# Altium footprint library CRHT_Connectors_PCB.PcbLib: 25 footprints (part 1 of 2)
Each footprint in its own frame and in the unit in brackets; x right, y up, seen from the top. Pads: shape width x height; smd on the part's side, far side on the other; paste and mask are expansions set on the pad; w line width, h text height; cw(c..) or ccw(c..) is an arc to the next point about the centre after c.
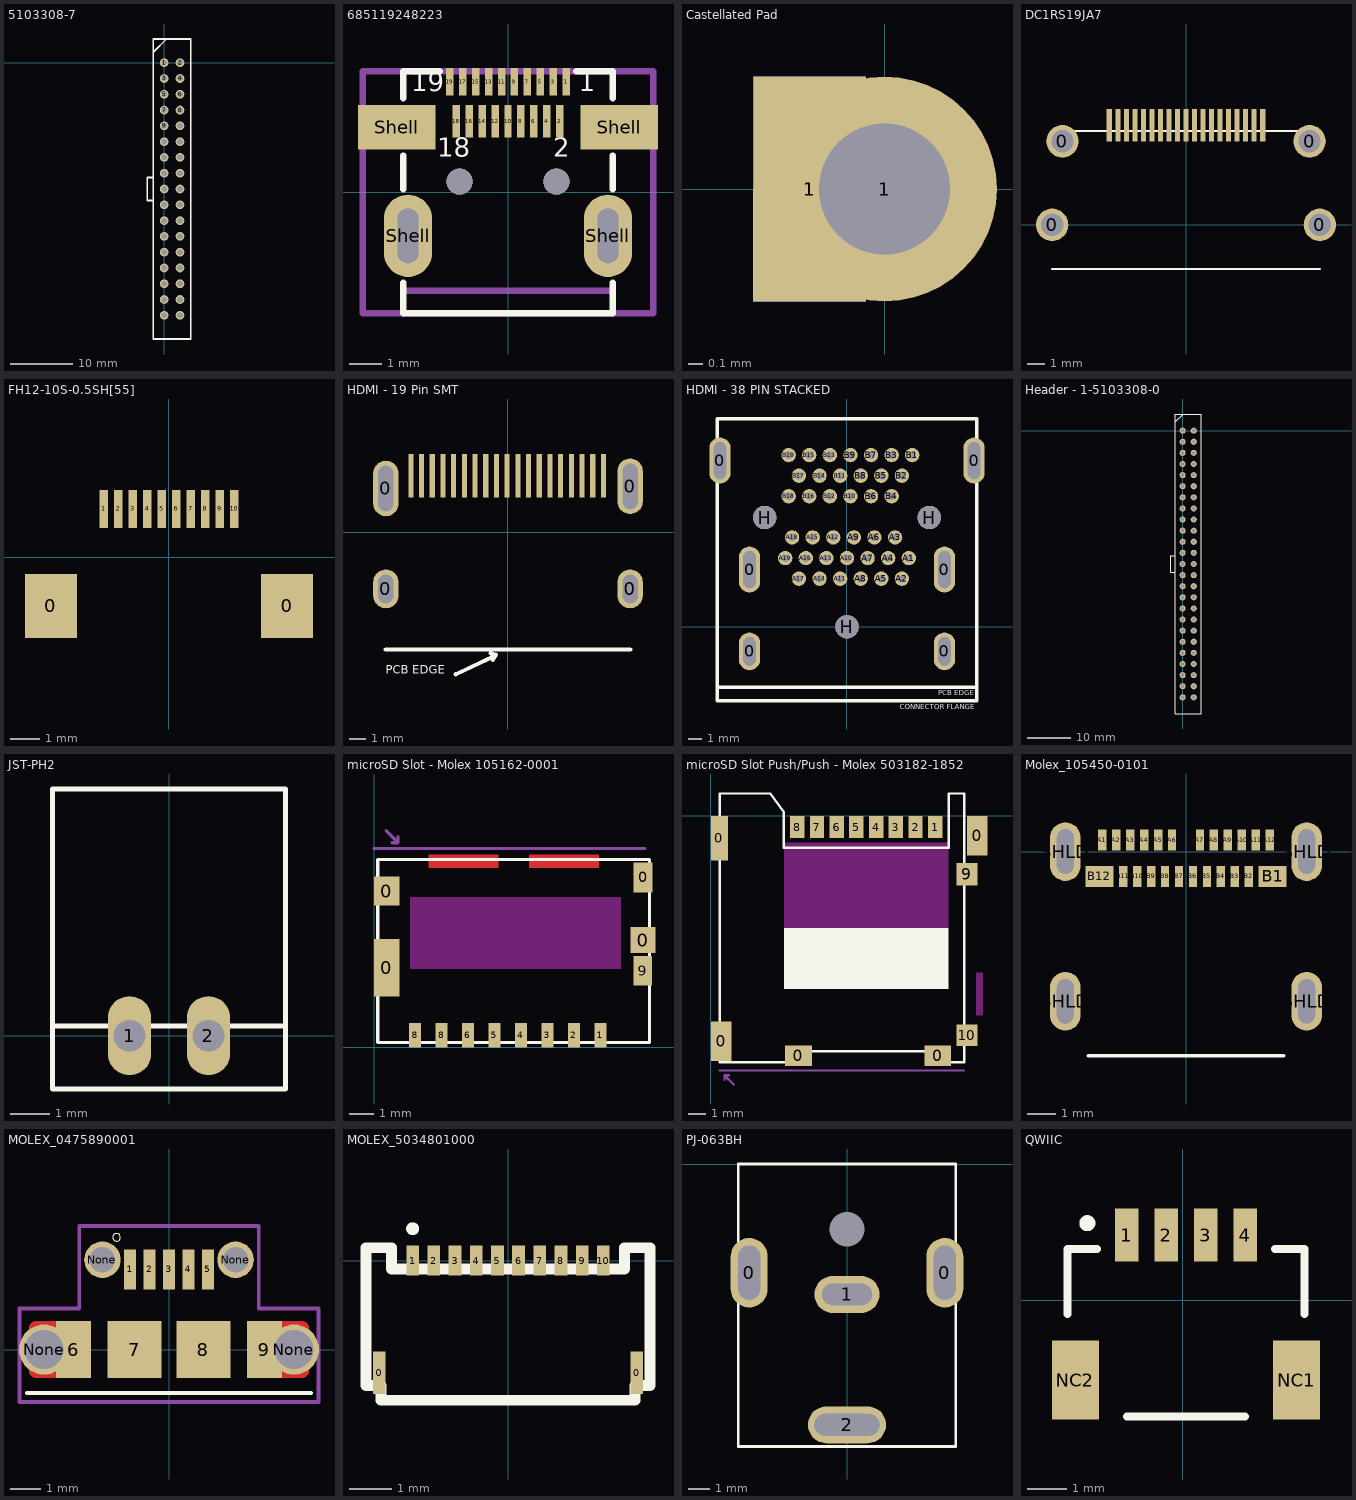
[diagram p0: the footprints below, top view; thin cyan lines are the x and y axes]

## 5103308-7 [mil]
pads (34):
  round 55 hole 35: 1(0,0) 2(100,0) 3(0,-100) 4(100,-100) 5(0,-200) 6(100,-200) 7(0,-300) 8(100,-300) 9(0,-400) 10(100,-400) 11(0,-500) 12(100,-500) 13(0,-600) 14(100,-600) 15(0,-700) 16(100,-700) 17(0,-800) 18(100,-800) 19(0,-900) 20(100,-900) 21(0,-1000) 22(100,-1000) 23(0,-1100) 24(100,-1100) 25(0,-1200) 26(100,-1200) 27(0,-1300) 28(100,-1300) 29(0,-1400) 30(100,-1400) 31(0,-1500) 32(100,-1500) 33(0,-1600) 34(100,-1600)
Top Overlay:
  lines w10: -68.11,-872.83 -107.48,-872.83 -107.48,-727.17 -68.11,-727.17 ; -66.56,68.44 15,150 ; -68.11,-1750 168.11,-1750 168.11,150 -68.11,150 -68.11,-1750
3D body "5103308-7.STEP": height 388, standoff -120, extent -130,-1800 230,200

## 685119248223 [mm] "Micro HDMI Horizontal SMT Hybrid Mount"
height 3
pads (25):
  rect 0.23x0.85 smd: 1(1.8,3.425) 3(1.4,3.425) 5(1,3.425) 7(0.6,3.425) 9(0.2,3.425) 11(-0.2,3.425) 13(-0.6,3.425) 15(-1,3.425) 17(-1.4,3.425) 19(-1.8,3.425)
  rect 0.23x1 smd: 2(1.6,2.2) 4(1.2,2.2) 6(0.8,2.2) 8(0.4,2.2) 10(0,2.2) 12(-0.4,2.2) 14(-0.8,2.2) 16(-1.2,2.2) 18(-1.6,2.2)
  rect 2.4x1.38 smd: Shell(-3.45,2.02) Shell(3.45,2.02)
  oval 1.5x2.55 hole 0.65 slot 1.7 at 90 deg: Shell(-3.1,-1.35) Shell(3.1,-1.35)
  round 0.81 hole 0.81 unplated: ""(-1.5,0.33) ""(1.5,0.33)
Top Overlay:
  lines w0.2: -3.25,-2.81 -3.25,-3.75 3.25,-3.75 3.25,-2.81 ; -3.25,0.1 -3.25,1.14 ; -3.25,2.91 -3.25,3.75 -2.12,3.75 ; 2.12,3.75 3.25,3.75 3.25,2.91 ; 3.25,0.1 3.25,1.14
  text "1" at 2.2,2.938 h1.02
  text "19" at -3,2.938 h1.02
  text "18" at -2.2,0.9 h1.02
  text "2" at 1.4,0.9 h1.02
Mechanical 13:
  lines w0.2: -4.509,-3.75 -4.509,3.75 4.509,3.75 4.509,-3.75 -4.509,-3.75
Mechanical 15:
  lines w0.2: -3.25,-3.05 3.25,-3.05
  text "PCB Edge" at -1.794,-2.746 h0.89
3D body "685119248223.stp": height 2.99, standoff -1.11, extent -4.509,-3.75 4.509,3.755

## Castellated Pad [mil]
pads (3):
  rect 30x60 smd: 1(-20,0)
  rect 30x60 smd far side: 1(-20,0)
  round 60 hole 35: 1(0,0)

## DC1RS19JA7 [mm] "HDMI Right Angle Connector"
height 6.1
pads (23):
  round 1.9 hole 1.3 mask+0.05: 0(-7.85,0) 0(-7.25,4.9) 0(7.25,4.9) 0(7.85,0)
  rect 0.3x1.9 smd mask+0.05: 1(4.5,5.85) 2(4,5.85) 3(3.5,5.85) 4(3,5.85) 5(2.5,5.85) 6(2,5.85) 7(1.5,5.85) 8(1,5.85) 9(0.5,5.85) 10(0,5.85) 11(-0.5,5.85) 12(-1,5.85) 13(-1.5,5.85) 14(-2,5.85) 15(-2.5,5.85) 16(-3,5.85) 17(-3.5,5.85) 18(-4,5.85) 19(-4.5,5.85)
Top Overlay:
  lines w0.127: -7.85,-2.6 7.85,-2.6 ; -7.85,5.5 7.85,5.5
3D body: height 7.1, standoff 0, extent -7.85,-2.5 7.85,5.5

## FH12-10S-0.5SH[55] [mm] "10-Pin Connector LCD"
pads (12):
  rect 1.8x2.2 smd: 0(-4.08,-1.675) 0(4.08,-1.675)
  rect 0.3x1.3 smd mask+0.05: 1(-2.25,1.675) 2(-1.75,1.675) 3(-1.25,1.675) 4(-0.75,1.675) 5(-0.25,1.675) 6(0.25,1.675) 7(0.75,1.675) 8(1.25,1.675) 9(1.75,1.675) 10(2.25,1.675)
3D body "FH12-10S-0.5SH.STEP": height 2.05, standoff -0.05, extent -4.55,-4.725 4.55,1.675

## HDMI - 19 Pin SMT [mm] "0.50mm Pitch HDMI* Receptacle, Right Angle, 0.76µm Gold (Au) Plating, Front Solder Tab Length 1.80mm, Shell 74151 Series"
height 6.18
pads (23):
  oval 1.5x2.3 hole 0.9 slot 1.7 at 90 deg: 0(-7.25,-3.36) 0(7.25,-3.36)
  oval 1.5x3.3 hole 0.9 slot 2.7 at 90 deg: 0(-7.25,2.6) 0(7.25,2.727)
  rect 0.3x2.6 smd: 1(5.665,3.36) 2(5.03,3.36) 3(4.395,3.36) 4(3.76,3.36) 5(3.125,3.36) 6(2.49,3.36) 7(1.855,3.36) 8(1.22,3.36) 9(0.585,3.36) 10(-0.05,3.36) 11(-0.685,3.36) 12(-1.32,3.36) 13(-1.955,3.36) 14(-2.59,3.36) 15(-3.225,3.36) 16(-3.86,3.36) 17(-4.495,3.36) 18(-5.13,3.36) 19(-5.765,3.36)
Top Overlay:
  lines w0.254: -7.25,-6.95 7.25,-6.95 ; -3.096,-8.421 -0.749,-7.306 -0.9,-7.56 -0.729,-7.272 -1.027,-7.179
  text "PCB EDGE" at -7.239,-8.382 h0.51

## HDMI - 38 PIN STACKED [mm] "1888811-1"
height 17.83
pads (47):
  oval 1.55x3.35 hole 0.9 slot 2.7 at 90 deg: 0(-9.25,12.1) 0(-7.1,4.16) 0(7.1,4.16) 0(9.25,12.1)
  oval 1.55x2.75 hole 0.9 slot 2.1 at 90 deg: 0(-7.1,-1.8) 0(7.1,-1.8)
  round 1.05 hole 0.55: A1(4.5,5) A2(4,3.5) A3(3.5,6.5) A4(3,5) A5(2.5,3.5) A6(2,6.5) A7(1.5,5) A8(1,3.5) A9(0.5,6.5) A10(0,5) A11(-0.5,3.5) A12(-1,6.5) A13(-1.5,5) A14(-2,3.5) A15(-2.5,6.5) A16(-3,5) A17(-3.5,3.5) A18(-4,6.5) A19(-4.5,5) B1(4.75,12.5) B2(4,11) B3(3.25,12.5) B4(3.25,9.5) B5(2.5,11) B6(1.75,9.5) B7(1.75,12.5) B8(1,11) B9(0.25,12.5) B10(0.25,9.5) B11(-0.5,11) B12(-1.25,9.5) B13(-1.25,12.5) B14(-2,11) B15(-2.75,12.5) B16(-2.75,9.5) B17(-3.5,11) B18(-4.25,9.5) B19(-4.25,12.5)
  round 1.7 hole 1.7 unplated: H(-6,7.95) H(0,0) H(6,7.95)
Top Overlay:
  lines w0.254: -9.367,-4.4 9.429,-4.4 ; 9.429,-5.4 -9.45,-5.4 -9.45,15.15 9.45,15.15 9.45,-5.4
  text "CONNECTOR FLANGE" at 3.841,-6.02 h0.38
  text "PCB EDGE" at 6.635,-5.004 h0.38
3D body "HDMI - 38 PIN STACKED.STEP": height 28, standoff -3.34, extent -9.398,-5.437 9.502,15.113

## Header - 1-5103308-0 [mil] "Headers & Wire Housings 50P HEADER SP 15DP - TE Connectivity"
height 388
pads (50):
  round 55 hole 35: 1(0,0) 2(100,0) 3(0,-100) 4(100,-100) 5(0,-200) 6(100,-200) 7(0,-300) 8(100,-300) 9(0,-400) 10(100,-400) 11(0,-500) 12(100,-500) 13(0,-600) 14(100,-600) 15(0,-700) 16(100,-700) 17(0,-800) 18(100,-800) 19(0,-900) 20(100,-900) 21(0,-1000) 22(100,-1000) 23(0,-1100) 24(100,-1100) 25(0,-1200) 26(100,-1200) 27(0,-1300) 28(100,-1300) 29(0,-1400) 30(100,-1400) 31(0,-1500) 32(100,-1500) 33(0,-1600) 34(100,-1600) 35(0,-1700) 36(100,-1700) 37(0,-1800) 38(100,-1800) 39(0,-1900) 40(100,-1900) 41(0,-2000) 42(100,-2000) 43(0,-2100) 44(100,-2100) 45(0,-2200) 46(100,-2200) 47(0,-2300) 48(100,-2300) 49(0,-2400) 50(100,-2400)
Top Overlay:
  lines w10: -68.11,-1272.83 -107.48,-1272.83 -107.48,-1127.17 -68.11,-1127.17 ; -66.56,78.44 5,150 ; -68.11,-2550 -68.11,150 168.11,150 168.11,-2550 -68.11,-2550
3D body "1-5103308-0.STEP": height 388, standoff -120, extent -130,-2600 230,200

## JST-PH2 [mm]
height 4.8
pads (2):
  oval 1.1x2 hole 0.8: 1(-1,0) 2(1,0)
Top Overlay:
  lines w0.127: -2.95,0.25 2.95,0.25 ; -2.95,-1.35 2.95,-1.35 2.95,6.25 -2.95,6.25 -2.95,-1.35

## microSD Slot - Molex 105162-0001 [mm] "1.10mm Pitch microSD Card Header with Detect Pin, Height 1.45mm, Lead-Free, Gold (Au) Plated 0.381µm"
height 1.45
pads (13):
  rect 1.05x2.39 smd: 0(0.525,3.305)
  rect 1.05x1.2 smd: 0(0.525,6.49)
  rect 1.05x1.08 smd: 0(11.175,4.45)
  rect 0.8x1.24 smd: 0(11.175,7.06)
  rect 0.5x1 smd: 1(9.4,0.5) 2(8.3,0.5) 3(7.2,0.5) 4(6.1,0.5) 5(5,0.5) 6(3.9,0.5) 8(1.7,0.5) 8(2.8,0.5)
  rect 0.78x1.24 smd: 9(11.16,3.18)
Top Layer:
  rectangle: 2.25,7.46 5.16,8.01
  rectangle: 6.44,7.46 9.35,8.01
Top Layer keep-out:
  rectangle: 1.5,3.25 10.25,6.25
Top Overlay:
  lines w0.127: 0.15,0.205 0.15,7.805 11.45,7.805 11.45,0.205 0.15,0.205
Mechanical 3:
  lines w0.127: 0,8.264 11.25,8.264 ; 0.75,8.5 1,8.5 ; 0.5,9 0.5,9 ; 0.5,9 0.75,8.75 1,8.5 ; 1,8.5 1,8.75 1,8.5
  text "PCB EDGE" at 0.5,9.25 h0.76
3D body "105162-0001.STEP": height 1.45, standoff 0, extent 0.225,0.2 11.525,7.8

## microSD Slot Push/Push - Molex 503182-1852 [mm] "1.10mm Pitch microSD Memory Card Connector, Normal Mount Surface Mount, Push-Push Type, 1.45mm Height, Anti-card fly-out"
height 1.45
pads (15):
  rect 0.95x2.5 smd: 0(0.475,-1.25)
  rect 1.15x2.2 smd: 0(0.575,-12.58) 0(14.865,-1.1)
  rect 1.5x1.15 smd: 0(4.88,-13.375) 0(12.66,-13.375)
  rect 0.8x1.24 smd: 1(12.52,-0.62) 2(11.42,-0.62) 3(10.32,-0.62) 4(9.22,-0.62) 5(8.12,-0.62) 6(7.02,-0.62) 7(5.92,-0.62) 8(4.82,-0.62)
  rect 1.16x1.25 smd: 9(14.29,-3.25)
  rect 1.16x1.2 smd: 10(14.29,-12.25)
Top Layer keep-out:
  rectangle: 4.07,-6.245 13.27,-1.495
Top Overlay:
  rectangle: 4.07,-9.65 13.27,-6.25
  lines w0.127: 0.5,-13.75 0.5,1.25 3.324,1.25 4.07,0.192 4.07,-1.775 13.27,-1.775 13.27,1.25 14.14,1.25 14.14,-13.75 12.75,-13.75 12.75,-13.13 5.25,-13.13 5.25,-13.75 0.5,-13.75
Keep-Out Layer:
  rectangle: 14.79,-11.15 15.19,-8.75
Mechanical 3:
  lines w0.127: 0.5,-14.204 14.125,-14.204 ; 1.27,-14.986 0.762,-14.478 ; 0.762,-14.478 1.016,-14.478 0.762,-14.478 ; 0.762,-14.478 0.762,-14.732 0.762,-14.478
  text "PCB EDGE" at 1.524,-15.494 h0.76
3D body "503182-1852.STEP": height 1.51, standoff 0.01, extent 0.255,-13.725 15.195,1.225

## Molex_105450-0101 [mm] "Molex_105450-0101 USB Type C Right Angle"
height 3.24
pads (28):
  rect 0.3x0.76 smd mask+0.05: A1(-3,0.41) A2(-2.5,0.41) A3(-2,0.41) A4(-1.5,0.41) A5(-1,0.41) A6(-0.5,0.41) A7(0.5,0.41) A8(1,0.41) A9(1.5,0.41) A10(2,0.41) A11(2.5,0.41) A12(3,0.41) B2(2.25,-0.89) B3(1.75,-0.89) B4(1.25,-0.89) B5(0.75,-0.89) B6(0.25,-0.89) B7(-0.25,-0.89) B8(-0.75,-0.89) B9(-1.25,-0.89) B10(-1.75,-0.89) B11(-2.25,-0.89)
  rect 1x0.76 smd mask+0.05: B1(3.1,-0.89) B12(-3.1,-0.89)
  oval 1.1x2.1 hole 1.6 slot 0.6 at 0 deg mask+0.05: SHLD(-4.32,-5.36) SHLD(-4.32,0) SHLD(4.32,-5.36) SHLD(4.32,0)
Top Overlay:
  lines w0.127: -3.5,-7.31 3.5,-7.31
3D body "1054500101.stp": height 3.18, standoff -0.78, extent -4.47,-7.3 4.47,0.6

## MOLEX_0475890001 [mm] "Molex USB uB Connector"
pads (13):
  rect 0.4x1.35 smd: 1(-1.3,2.675) 2(-0.65,2.675) 3(0,2.675) 4(0.65,2.675) 5(1.3,2.675)
  rect 1.175x1.9 smd: 6(-3.187,0) 9(3.187,0)
  rect 1.8x1.9 smd: 7(-1.15,0) 8(1.15,0)
  round 1.676 hole 1.3: None(-4.175,0) None(4.175,0)
  round 1.219 hole 0.85: None(-2.225,3) None(2.225,3)
Top Layer:
  region: 193 vertices and 0 holes, not listed, extent -4.675,-0.95 -3.875,0.95
  region: -3.875,0.95 -3.775,0.95 -3.775,-0.95 -3.875,-0.95
  region: 193 vertices and 0 holes, not listed, extent 3.875,-0.95 4.675,0.95
  region: 3.875,0.95 3.775,0.95 3.775,-0.95 3.875,-0.95
  region: 2.225,2.475 2.236,2.475 2.258,2.476 2.28,2.478 2.302,2.482 2.324,2.487 2.346,2.492 2.367,2.499 2.388,2.507 2.408,2.516 2.428,2.526 2.447,2.538 2.466,2.55 2.484,2.563 2.501,2.577 2.518,2.592 2.533,2.607 2.548,2.624 2.562,2.641 2.575,2.659 2.587,2.678 2.599,2.697 2.609,2.717 2.618,2.737 2.626,2.758 2.633,2.779 2.638,2.801 2.643,2.823 2.647,2.845 2.649,2.867 2.65,2.889 2.65,2.9 2.65,3 2.55,3 2.55,2.9 2.55,2.891 2.549,2.874 2.547,2.858 2.545,2.841 2.541,2.824 2.537,2.808 2.531,2.791 2.525,2.776 2.518,2.76 2.511,2.745 2.502,2.73 2.493,2.716 2.483,2.702 2.472,2.689 2.461,2.676 2.449,2.664 2.436,2.653 2.423,2.642 2.409,2.632 2.395,2.623 2.38,2.614 2.365,2.607 2.349,2.6 2.334,2.594 2.317,2.588 2.301,2.584 2.284,2.58 2.267,2.578 2.251,2.576 2.234,2.575 2.225,2.575 2.216,2.575 2.199,2.576 2.183,2.578 2.166,2.58 2.149,2.584 2.133,2.588 2.116,2.594 2.101,2.6 2.085,2.607 2.07,2.614 2.055,2.623 2.041,2.632 2.027,2.642 2.014,2.653 2.001,2.664 1.989,2.676 1.978,2.689 1.967,2.702 1.957,2.716 1.948,2.73 1.939,2.745 1.932,2.76 1.925,2.776 1.919,2.791 1.913,2.808 1.909,2.824 1.905,2.841 1.903,2.858 1.901,2.874 1.9,2.891 1.9,2.9 1.9,3 1.8,3 1.8,2.9 1.8,2.889 1.801,2.867 1.803,2.845 1.807,2.823 1.812,2.801 1.817,2.779 1.824,2.758 1.832,2.737 1.841,2.717 1.851,2.697 1.863,2.678 1.875,2.659 1.888,2.641 1.902,2.624 1.917,2.607 1.932,2.592 1.949,2.577 1.966,2.563 1.984,2.55 2.003,2.538 2.022,2.526 2.042,2.516 2.062,2.507 2.083,2.499 2.104,2.492 2.126,2.487 2.148,2.482 2.17,2.478 2.192,2.476 2.214,2.475
  region: 2.225,3.425 2.234,3.425 2.251,3.424 2.267,3.422 2.284,3.42 2.301,3.416 2.317,3.412 2.334,3.406 2.349,3.4 2.365,3.393 2.38,3.386 2.395,3.377 2.409,3.368 2.423,3.358 2.436,3.347 2.449,3.336 2.461,3.324 2.472,3.311 2.483,3.298 2.493,3.284 2.502,3.27 2.511,3.255 2.518,3.24 2.525,3.224 2.531,3.209 2.537,3.192 2.541,3.176 2.545,3.159 2.547,3.142 2.549,3.126 2.55,3.109 2.55,3.1 2.55,3 2.65,3 2.65,3.1 2.65,3.111 2.649,3.133 2.647,3.155 2.643,3.177 2.638,3.199 2.633,3.221 2.626,3.242 2.618,3.263 2.609,3.283 2.599,3.303 2.588,3.322 2.575,3.341 2.562,3.359 2.548,3.376 2.533,3.393 2.518,3.408 2.501,3.423 2.484,3.437 2.466,3.45 2.447,3.462 2.428,3.474 2.408,3.484 2.388,3.493 2.367,3.501 2.346,3.508 2.324,3.513 2.302,3.518 2.281,3.522 2.258,3.524 2.236,3.525 2.225,3.525 2.214,3.525 2.192,3.524 2.17,3.522 2.148,3.518 2.126,3.513 2.104,3.508 2.083,3.501 2.062,3.493 2.042,3.484 2.022,3.474 2.003,3.463 1.984,3.45 1.966,3.437 1.949,3.423 1.932,3.408 1.917,3.393 1.902,3.376 1.888,3.359 1.875,3.341 1.863,3.322 1.851,3.303 1.841,3.283 1.832,3.263 1.824,3.242 1.817,3.221 1.812,3.199 1.807,3.177 1.803,3.156 1.801,3.133 1.8,3.111 1.8,3.1 1.8,3 1.9,3 1.9,3.1 1.9,3.109 1.901,3.126 1.903,3.142 1.905,3.159 1.909,3.176 1.913,3.192 1.919,3.209 1.925,3.224 1.932,3.24 1.939,3.255 1.948,3.27 1.957,3.284 1.967,3.298 1.978,3.311 1.989,3.324 2.001,3.336 2.014,3.347 2.027,3.358 2.041,3.368 2.055,3.377 2.07,3.386 2.085,3.393 2.101,3.4 2.116,3.406 2.133,3.412 2.149,3.416 2.166,3.42 2.183,3.422 2.199,3.424 2.216,3.425
  region: -2.225,2.475 -2.214,2.475 -2.192,2.476 -2.17,2.478 -2.148,2.482 -2.126,2.487 -2.104,2.492 -2.083,2.499 -2.062,2.507 -2.042,2.516 -2.022,2.526 -2.003,2.538 -1.984,2.55 -1.966,2.563 -1.949,2.577 -1.932,2.592 -1.917,2.607 -1.902,2.624 -1.888,2.641 -1.875,2.659 -1.863,2.678 -1.851,2.697 -1.841,2.717 -1.832,2.737 -1.824,2.758 -1.817,2.779 -1.812,2.801 -1.807,2.823 -1.803,2.845 -1.801,2.867 -1.8,2.889 -1.8,2.9 -1.8,3 -1.9,3 -1.9,2.9 -1.9,2.891 -1.901,2.874 -1.903,2.858 -1.905,2.841 -1.909,2.824 -1.913,2.808 -1.919,2.791 -1.925,2.776 -1.932,2.76 -1.939,2.745 -1.948,2.73 -1.957,2.716 -1.967,2.702 -1.978,2.689 -1.989,2.676 -2.001,2.664 -2.014,2.653 -2.027,2.642 -2.041,2.632 -2.055,2.623 -2.07,2.614 -2.085,2.607 -2.101,2.6 -2.116,2.594 -2.133,2.588 -2.149,2.584 -2.166,2.58 -2.183,2.578 -2.199,2.576 -2.216,2.575 -2.225,2.575 -2.234,2.575 -2.251,2.576 -2.267,2.578 -2.284,2.58 -2.301,2.584 -2.317,2.588 -2.334,2.594 -2.349,2.6 -2.365,2.607 -2.38,2.614 -2.395,2.623 -2.409,2.632 -2.423,2.642 -2.436,2.653 -2.449,2.664 -2.461,2.676 -2.472,2.689 -2.483,2.702 -2.493,2.716 -2.502,2.73 -2.511,2.745 -2.518,2.76 -2.525,2.776 -2.531,2.791 -2.537,2.808 -2.541,2.824 -2.545,2.841 -2.547,2.858 -2.549,2.874 -2.55,2.891 -2.55,2.9 -2.55,3 -2.65,3 -2.65,2.9 -2.65,2.889 -2.649,2.867 -2.647,2.845 -2.643,2.823 -2.638,2.801 -2.633,2.779 -2.626,2.758 -2.618,2.737 -2.609,2.717 -2.599,2.697 -2.588,2.678 -2.575,2.659 -2.562,2.641 -2.548,2.624 -2.533,2.607 -2.518,2.592 -2.501,2.577 -2.484,2.563 -2.466,2.55 -2.447,2.538 -2.428,2.526 -2.408,2.516 -2.388,2.507 -2.367,2.499 -2.346,2.492 -2.324,2.487 -2.302,2.482 -2.281,2.478 -2.258,2.476 -2.236,2.475
  region: -2.225,3.425 -2.216,3.425 -2.199,3.424 -2.183,3.422 -2.166,3.42 -2.149,3.416 -2.133,3.412 -2.116,3.406 -2.101,3.4 -2.085,3.393 -2.07,3.386 -2.055,3.377 -2.041,3.368 -2.027,3.358 -2.014,3.347 -2.001,3.336 -1.989,3.324 -1.978,3.311 -1.967,3.298 -1.957,3.284 -1.948,3.27 -1.939,3.255 -1.932,3.24 -1.925,3.224 -1.919,3.209 -1.913,3.192 -1.909,3.176 -1.905,3.159 -1.903,3.142 -1.901,3.126 -1.9,3.109 -1.9,3.1 -1.9,3 -1.8,3 -1.8,3.1 -1.8,3.111 -1.801,3.133 -1.803,3.155 -1.807,3.177 -1.812,3.199 -1.817,3.221 -1.824,3.242 -1.832,3.263 -1.841,3.283 -1.851,3.303 -1.863,3.322 -1.875,3.341 -1.888,3.359 -1.902,3.376 -1.917,3.393 -1.932,3.408 -1.949,3.423 -1.966,3.437 -1.984,3.45 -2.003,3.462 -2.022,3.474 -2.042,3.484 -2.062,3.493 -2.083,3.501 -2.104,3.508 -2.126,3.513 -2.148,3.518 -2.17,3.522 -2.192,3.524 -2.214,3.525 -2.225,3.525 -2.236,3.525 -2.258,3.524 -2.28,3.522 -2.302,3.518 -2.324,3.513 -2.346,3.508 -2.367,3.501 -2.388,3.493 -2.408,3.484 -2.428,3.474 -2.447,3.463 -2.466,3.45 -2.484,3.437 -2.501,3.423 -2.518,3.408 -2.533,3.393 -2.548,3.376 -2.562,3.359 -2.575,3.341 -2.587,3.322 -2.599,3.303 -2.609,3.283 -2.618,3.263 -2.626,3.242 -2.633,3.221 -2.638,3.199 -2.643,3.177 -2.647,3.156 -2.649,3.133 -2.65,3.111 -2.65,3.1 -2.65,3 -2.55,3 -2.55,3.1 -2.55,3.109 -2.549,3.126 -2.547,3.142 -2.545,3.159 -2.541,3.176 -2.537,3.192 -2.531,3.209 -2.525,3.224 -2.518,3.24 -2.511,3.255 -2.502,3.27 -2.493,3.284 -2.483,3.298 -2.472,3.311 -2.461,3.324 -2.449,3.336 -2.436,3.347 -2.423,3.358 -2.409,3.368 -2.395,3.377 -2.38,3.386 -2.365,3.393 -2.349,3.4 -2.334,3.406 -2.317,3.412 -2.301,3.416 -2.284,3.42 -2.267,3.422 -2.251,3.424 -2.234,3.425
Top Overlay:
  circle w0: c-1.75,3.75 r0.127
  lines w0.127: -4.75,-1.45 4.75,-1.45
Top Paste:
  lines w0.1: -2.6,2.9 ccw(c-2.225,2.9) -2.225,2.525 ccw(c-2.225,2.9) -1.85,2.9 -1.85,3.1 ccw(c-2.225,3.1) -2.225,3.475 ccw(c-2.225,3.1) -2.6,3.1 -2.6,2.9 ; 1.85,2.9 ccw(c2.225,2.9) 2.225,2.525 ccw(c2.225,2.9) 2.6,2.9 2.6,3.1 ccw(c2.225,3.1) 2.225,3.475 ccw(c2.225,3.1) 1.85,3.1 1.85,2.9
  lines w0.2: -4.175,-0.75 cw(c-4.175,-0.35) -4.575,-0.35 -4.575,0.35 cw(c-4.175,0.35) -4.175,0.75 ; 4.175,-0.75 ccw(c4.175,-0.35) 4.575,-0.35 4.575,0.35 ccw(c4.175,0.35) 4.175,0.75 ; -4.575,-0.7 ccw(c-4.425,-0.7) -4.425,-0.85 -3.675,-0.85 -3.675,0.85 -4.425,0.85 ccw(c-4.425,0.7) -4.575,0.7 -4.575,-0.7 ; 3.675,-0.85 4.425,-0.85 ccw(c4.425,-0.7) 4.575,-0.7 4.575,0.7 ccw(c4.425,0.7) 4.425,0.85 3.675,0.85 3.675,-0.85
  lines w0.3: -4.175,-0.8 ccw(c-4.175,-0.35) -3.725,-0.35 -3.725,0.35 ccw(c-4.175,0.35) -4.175,0.8 ; 4.175,-0.8 cw(c4.175,-0.35) 3.725,-0.35 3.725,0.35 cw(c4.175,0.35) 4.175,0.8
Top Solder:
  lines w0.2: -4.675,-0.7 ccw(c-4.425,-0.7) -4.425,-0.95 -3.675,-0.95 -3.675,0.95 -4.425,0.95 ccw(c-4.425,0.7) -4.675,0.7 -4.675,-0.7 ; -2.65,2.9 ccw(c-2.225,2.9) -2.225,2.475 ccw(c-2.225,2.9) -1.8,2.9 -1.8,3.1 ccw(c-2.225,3.1) -2.225,3.525 ccw(c-2.225,3.1) -2.65,3.1 -2.65,2.9 ; 1.8,2.9 ccw(c2.225,2.9) 2.225,2.475 ccw(c2.225,2.9) 2.65,2.9 2.65,3.1 ccw(c2.225,3.1) 2.225,3.525 ccw(c2.225,3.1) 1.8,3.1 1.8,2.9 ; 3.675,-0.95 4.425,-0.95 ccw(c4.425,-0.7) 4.675,-0.7 4.675,0.7 ccw(c4.425,0.7) 4.425,0.95 3.675,0.95 3.675,-0.95
  lines w0.3: -4.625,-0.35 ccw(c-4.175,-0.35) -4.175,-0.8 ccw(c-4.175,-0.35) -3.725,-0.35 -3.725,0.35 ccw(c-4.175,0.35) -4.175,0.8 ccw(c-4.175,0.35) -4.625,0.35 -4.625,-0.35 ; 3.725,-0.35 ccw(c4.175,-0.35) 4.175,-0.8 ccw(c4.175,-0.35) 4.625,-0.35 4.625,0.35 ccw(c4.175,0.35) 4.175,0.8 ccw(c4.175,0.35) 3.725,0.35 3.725,-0.35
Mechanical 1:
  lines w0: -4.475,-0.35 ccw(c-4.175,-0.35) -4.175,-0.65 ccw(c-4.175,-0.35) -3.875,-0.35 -3.875,0.35 ccw(c-4.175,0.35) -4.175,0.65 ccw(c-4.175,0.35) -4.475,0.35 -4.475,-0.35 ; -2.55,2.9 ccw(c-2.225,2.9) -2.225,2.575 ccw(c-2.225,2.9) -1.9,2.9 -1.9,3.1 ccw(c-2.225,3.1) -2.225,3.425 ccw(c-2.225,3.1) -2.55,3.1 -2.55,2.9 ; 1.9,2.9 ccw(c2.225,2.9) 2.225,2.575 ccw(c2.225,2.9) 2.55,2.9 2.55,3.1 ccw(c2.225,3.1) 2.225,3.425 ccw(c2.225,3.1) 1.9,3.1 1.9,2.9 ; 3.875,-0.35 ccw(c4.175,-0.35) 4.175,-0.65 ccw(c4.175,-0.35) 4.475,-0.35 4.475,0.35 ccw(c4.175,0.35) 4.175,0.65 ccw(c4.175,0.35) 3.875,0.35 3.875,-0.35
Mechanical 4:
  lines w0: -4.475,-0.35 ccw(c-4.175,-0.35) -4.175,-0.65 ; -4.475,-0.35 ccw(c-4.175,-0.35) -4.175,-0.65 ; -4.475,-0.35 -4.475,0.35 ; -4.475,-0.35 -4.475,0.35 ; -4.475,0.35 cw(c-4.175,0.35) -4.175,0.65 ; -4.475,0.35 cw(c-4.175,0.35) -4.175,0.65 ; -4.175,-0.65 ccw(c-4.175,-0.35) -3.875,-0.35 ; -4.175,-0.65 ccw(c-4.175,-0.35) -3.875,-0.35 ; -4.175,0.65 cw(c-4.175,0.35) -3.875,0.35 ; -4.175,0.65 cw(c-4.175,0.35) -3.875,0.35 ; -3.875,-0.35 -3.875,0.35 ; -3.875,-0.35 -3.875,0.35 ; -2.55,2.9 ccw(c-2.225,2.9) -2.225,2.575 ; -2.55,2.9 ccw(c-2.225,2.9) -2.225,2.575 ; -2.55,2.9 -2.55,3.1 ; -2.55,2.9 -2.55,3.1 ; -2.55,3.1 cw(c-2.225,3.1) -2.225,3.425 ; -2.55,3.1 cw(c-2.225,3.1) -2.225,3.425 ; -2.225,2.575 ccw(c-2.225,2.9) -1.9,2.9 ; -2.225,2.575 ccw(c-2.225,2.9) -1.9,2.9 ; -2.225,3.425 cw(c-2.225,3.1) -1.9,3.1 ; -2.225,3.425 cw(c-2.225,3.1) -1.9,3.1 ; -1.9,2.9 -1.9,3.1 ; -1.9,2.9 -1.9,3.1 ; 1.9,2.9 ccw(c2.225,2.9) 2.225,2.575 ; 1.9,2.9 ccw(c2.225,2.9) 2.225,2.575 ; 1.9,2.9 1.9,3.1 ; 1.9,2.9 1.9,3.1 ; 1.9,3.1 cw(c2.225,3.1) 2.225,3.425 ; 1.9,3.1 cw(c2.225,3.1) 2.225,3.425 ; 2.225,2.575 ccw(c2.225,2.9) 2.55,2.9 ; 2.225,2.575 ccw(c2.225,2.9) 2.55,2.9 ; 2.225,3.425 cw(c2.225,3.1) 2.55,3.1 ; 2.225,3.425 cw(c2.225,3.1) 2.55,3.1 ; 2.55,2.9 2.55,3.1 ; 2.55,2.9 2.55,3.1 ; 3.875,-0.35 ccw(c4.175,-0.35) 4.175,-0.65 ; 3.875,-0.35 ccw(c4.175,-0.35) 4.175,-0.65 ; 3.875,-0.35 3.875,0.35 ; 3.875,-0.35 3.875,0.35 ; 3.875,0.35 cw(c4.175,0.35) 4.175,0.65 ; 3.875,0.35 cw(c4.175,0.35) 4.175,0.65 ; 4.175,-0.65 ccw(c4.175,-0.35) 4.475,-0.35 ; 4.175,-0.65 ccw(c4.175,-0.35) 4.475,-0.35 ; 4.175,0.65 cw(c4.175,0.35) 4.475,0.35 ; 4.175,0.65 cw(c4.175,0.35) 4.475,0.35 ; 4.475,-0.35 4.475,0.35 ; 4.475,-0.35 4.475,0.35
Mechanical 16:
  lines w0.127: -5,-1.75 5,-1.75 5,1.375 3,1.375 3,4.125 -3,4.125 -3,1.375 -5,1.375 -5,-1.75
3D body: height 0.25, standoff 0, extent 0,1.397 0,1.397
3D body "475890001.stp": height 2.46, standoff -0.85, extent -4.325,-2.667 4.325,3.227

## MOLEX_5034801000 [mm] "Molex 10 position ZIF connector"
pads (12):
  rect 0.3x1 smd: 0(-3.04,-2.65) 0(3.04,-2.65)
  rect 0.3x0.7 smd: 1(-2.25,0) 2(-1.75,0) 3(-1.25,0) 4(-0.75,0) 5(-0.25,0) 6(0.25,0) 7(0.75,0) 8(1.25,0) 9(1.75,0) 10(2.25,0)
Top Overlay:
  circle w0.254: c-2.25,0.75 r0.025
  lines w0.254: -3.35,-2.95 -3.35,0.3 -2.75,0.3 -2.75,-0.2 2.75,-0.2 2.75,0.3 3.35,0.3 3.35,-2.95 3,-2.95 3,-3.3 -3,-3.3 -3,-2.95 -3.35,-2.95
3D body "5034801000.STEP": height 1.85, standoff -0.04, extent -3.35,-3.3 3.35,0.3

## PJ-063BH [mm]
height 9
pads (5):
  oval 1.7x3.2 hole 1 slot 2.5 at 90 deg: 0(-4.5,-5) 0(4.5,-5)
  round 0 hole 1.6 unplated: 0(0,-3)
  oval 3x1.7 hole 1 slot 2.3 at 0 deg: 1(0,-6)
  oval 3.6x1.7 hole 1 slot 3 at 0 deg: 2(0,-12)
Top Overlay:
  lines w0.127: -5,-13 -5,0 5,0 5,-13 -5,-13
3D body "CUI_DEVICES_PJ-063BH.step": height 9, standoff -3, extent -5.15,-13 5.15,0

## QWIIC [mm]
pads (6):
  rect 0.6x1.35 smd: 1(-1.419,1.651) 2(-0.419,1.651) 3(0.581,1.651) 4(1.581,1.651)
  rect 1.2x2 smd: NC1(2.881,-2.024) NC2(-2.719,-2.024)
Top Overlay:
  circle w0.203: c-2.419,1.951 r0.102
  lines w0.203: -2.919,-0.349 -2.919,1.301 -2.169,1.301 ; -1.419,-2.949 1.581,-2.949 ; 2.331,1.301 3.081,1.301 3.081,-0.349